# EAGLE library part EXIXE14_POGO (library exixe_module)
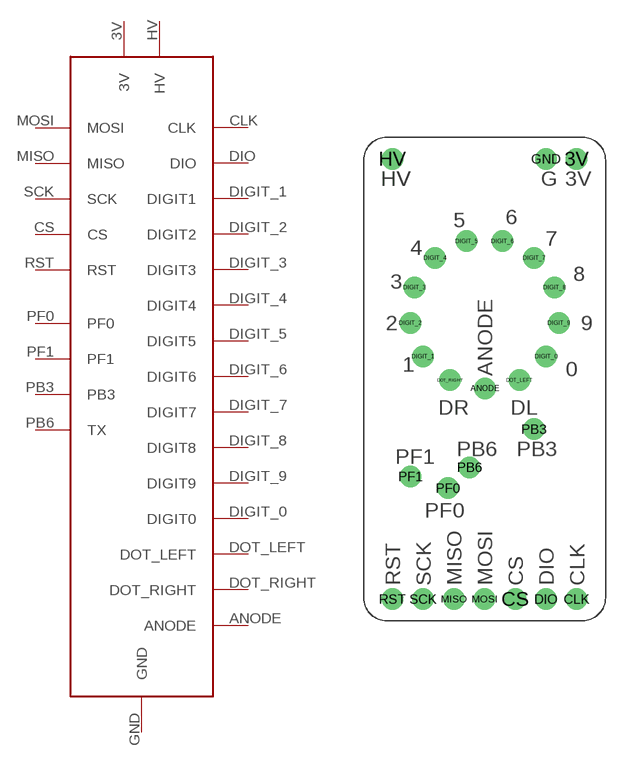
[diagram p1: symbol with the pads of EXIXE14_PAC; footprint EXIXE14_PAC]

Designator prefix -

## EXIXE14_POGO  [EXIXE14_PAC]
3V  3V
ANODE  ANODE
CLK  CLK
CS  CS
DIGIT_0  DIGIT0
DIGIT_1  DIGIT1
DIGIT_2  DIGIT2
DIGIT_3  DIGIT3
DIGIT_4  DIGIT4
DIGIT_5  DIGIT5
DIGIT_6  DIGIT6
DIGIT_7  DIGIT7
DIGIT_8  DIGIT8
DIGIT_9  DIGIT9
DIO  DIO
DOT_LEFT  DOT_LEFT
DOT_RIGHT  DOT_RIGHT
GND  GND
HV  HV
MISO  MISO
MOSI  MOSI
PB3  PB3
PB6  TX
PF0  PF0
PF1  PF1
RST  RST
SCK  SCK

## Footprint EXIXE14_PAC (pad centres in mm)
drill 0.635 pad 1.778: 3V 17.62,38.2; ANODE 10.033,19.224; CLK 17.62,1.8; CS 12.54,1.8; DIGIT_0 15.094,21.865; DIGIT_1 4.906,21.865; DIGIT_2 3.855,24.635; DIGIT_3 4.212,27.576; DIGIT_4 5.895,30.014; DIGIT_5 8.519,31.391; DIGIT_6 11.481,31.391; DIGIT_7 14.105,30.014; DIGIT_8 15.788,27.576; DIGIT_9 16.145,24.635; DIO 15.08,1.8; DOT_LEFT 12.877,19.9; DOT_RIGHT 7.123,19.9; GND 15.08,38.2; HV 2.38,38.2; MISO 7.46,1.8; MOSI 10,1.8; PB3 14.086,15.85; PB6 8.774,12.7; PF0 6.974,10.973; PF1 3.875,11.938; RST 2.38,1.8; SCK 4.92,1.8